# Altium schematic symbol library MCU_Modules.SchLib: 2 symbols
Pins are listed as number, name and electrical type; pins without a type are passive.

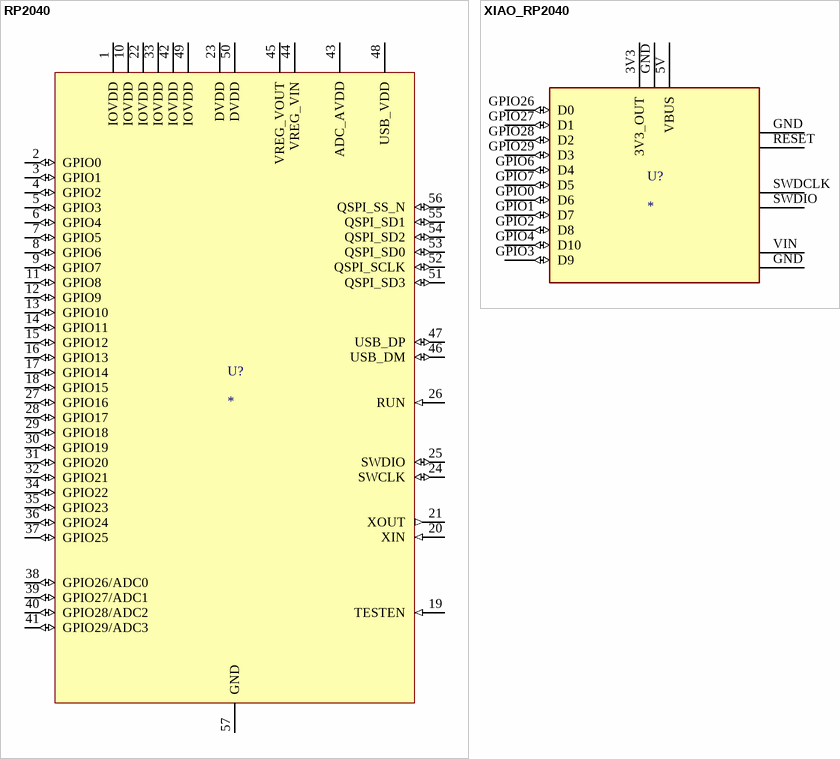
[diagram p0: symbols RP2040 to XIAO_RP2040]

## RP2040
designator U?
Raspberry RP2040 MCU
footprint RP2040 (Raspberry Pi RP2040)
pins: 1 IOVDD (power), 2 GPIO0 (io), 3 GPIO1 (io), 4 GPIO2 (io), 5 GPIO3 (io), 6 GPIO4 (io), 7 GPIO5 (io), 8 GPIO6 (io), 9 GPIO7 (io), 10 IOVDD (power), 11 GPIO8 (io), 12 GPIO9 (io), 13 GPIO10 (io), 14 GPIO11 (io), 15 GPIO12 (io), 16 GPIO13 (io), 17 GPIO14 (io), 18 GPIO15 (io), 19 TESTEN (in), 20 XIN (in), 21 XOUT (out), 22 IOVDD (power), 23 DVDD (power), 24 SWCLK (io), 25 SWDIO (io), 26 RUN (in), 27 GPIO16 (io), 28 GPIO17 (io), 29 GPIO18 (io), 30 GPIO19 (io), 31 GPIO20 (io), 32 GPIO21 (io), 33 IOVDD (power), 34 GPIO22 (io), 35 GPIO23 (io), 36 GPIO24 (io), 37 GPIO25 (io), 38 GPIO26/ADC0 (io), 39 GPIO27/ADC1 (io), 40 GPIO28/ADC2 (io), 41 GPIO29/ADC3 (io), 42 IOVDD (power), 43 ADC_AVDD (power), 44 VREG_VIN (power), 45 VREG_VOUT (power), 46 USB_DM (io), 47 USB_DP (io), 48 USB_VDD (power), 49 IOVDD (power), 50 DVDD (power), 51 QSPI_SD3 (io), 52 QSPI_SCLK (io), 53 QSPI_SD0 (io), 54 QSPI_SD2 (io), 55 QSPI_SD1 (io), 56 QSPI_SS_N (io), 57 GND (power)

## XIAO_RP2040
designator U?
Seed Studio XIAO_RP2040 MCU Board
footprint XIAO_RP2040 (Seed Studio Microcontroller, Mini and compact using the RP2040 Chip)
pins: 3V3 3V3_OUT (power), 5V VBUS (power), GND, GND, GND, GPIO0 D6 (io), GPIO1 D7 (io), GPIO2 D8 (io), GPIO3 D9 (io), GPIO4 D10 (io), GPIO6 D4 (io), GPIO7 D5 (io), GPIO26 D0 (io), GPIO27 D1 (io), GPIO28 D2 (io), GPIO29 D3 (io), RESET, SWDCLK, SWDIO, VIN